# Altium footprint library PcbLib1.PcbLib: 9 footprints
Each footprint in its own frame and in the unit in brackets; x right, y up, seen from the top. Pads: shape width x height; smd on the part's side, far side on the other; paste and mask are expansions set on the pad; w line width, h text height; cw(c..) or ccw(c..) is an arc to the next point about the centre after c.
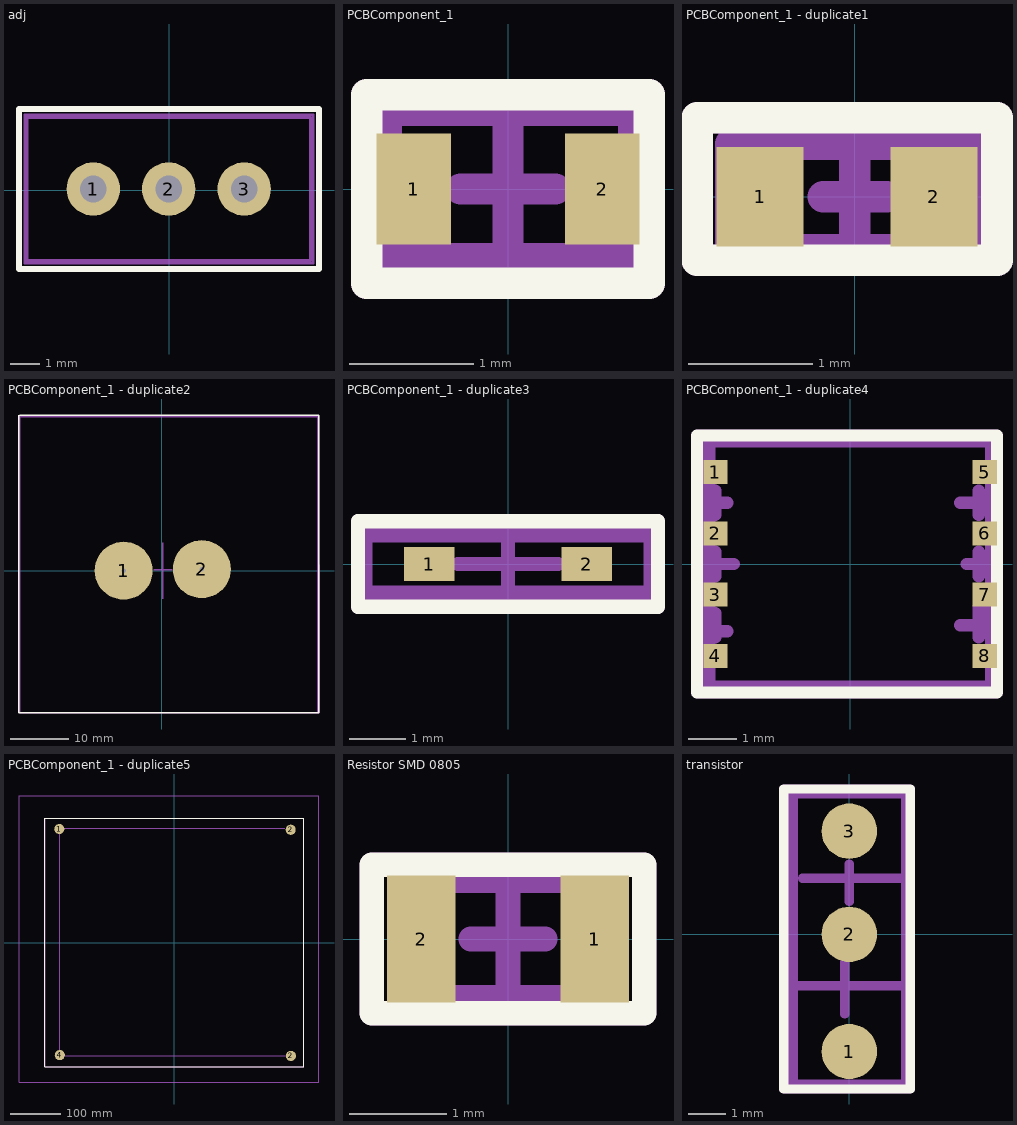
[diagram p0: the footprints below, top view; thin cyan lines are the x and y axes]

## adj [mm]
pads (3):
  round 1.8 hole 0.9: 1(-2.562,0.043) 2(-0.022,0.043) 3(2.518,0.043)
Top Overlay:
  lines w0.2: -5.062,-2.657 5.038,-2.657 5.038,2.743 -5.062,2.743 -5.062,-2.657
Top Single:
  lines w0.1: -4.787,-2.357 4.743,-2.357 4.743,2.443 -4.787,2.443 -4.787,-2.357
Boarder:
  lines w0.1: -4.862,-2.457 -4.862,2.543 4.838,2.543 4.838,-2.457 -4.862,-2.457
3D body "User Library-3296W.STEP": height 11.55, standoff -1.6, extent -4.787,-2.357 4.743,2.443

## PCBComponent_1 [mm]
pads (2):
  rect 0.6x0.9 smd: 1(-0.762,0) 2(0.762,0)
Top Overlay:
  lines w0.254: -1.143,-0.762 1.143,-0.762 1.143,0.762 -1.143,0.762 -1.143,-0.762
3D Model:
  lines w0.254: -0.984,-0.565 -0.984,0.635 1.016,0.635 1.016,-0.565 -0.984,-0.565
Boarder:
  lines w0.254: -0.381,0 0.381,0 ; 0,-0.762 0,0.762 ; -1.143,-0.762 -1.143,0.762 1.143,0.762 1.143,-0.762 -1.143,-0.762
3D body "Резистор 1206 _ 1206 SMD.stp": height 0.61, standoff 0, extent -0.984,-0.508 1.016,0.692

## PCBComponent_1 - duplicate1 [mm]
pads (2):
  rect 0.7x0.8 smd: 1(-0.762,0) 2(0.635,0)
Top Overlay:
  lines w0.254: -1.27,-0.508 -1.27,0.635 1.143,0.635 1.143,-0.508 -1.27,-0.508
3D Model:
  lines w0.254: -1,-0.425 -1,0.425 1,0.425 1,-0.425 -1,-0.425
Boarder:
  lines w0.254: -0.254,0 0.254,0 ; 0,-0.508 0,0.508 ; -1.27,-0.508 -1.27,0.635 1.143,0.635 1.143,-0.508 -1.27,-0.508
3D body "Диод стабилитрон.stp": height -0.05, standoff -0.7, extent -1,-0.425 1,0.425

## PCBComponent_1 - duplicate2 [mil]
pads (2):
  round 393.7 hole 30: 1(-260,0) 2(270,10)
Top Overlay:
  lines w10: -970,1055 -970,-965 1065,-965 1065,1055 -965,1055
3D Model:
  lines w10: -965,-965 -965,1045 1055,1045 1055,-965 -965,-965
Boarder:
  lines w10: -55,5 70,5 ; 5,-190 5,190 ; -965,-965 -965,1050 1065,1050 1065,-965 -965,-965
3D body "Конденсатор _ 220000UF.stp": height -11.81, standoff -4027.56, extent -957.87,-961.95 1050,1041.96

## PCBComponent_1 - duplicate3 [mm]
pads (2):
  rect 0.9x0.6 smd: 1(-1.397,0) 2(1.397,0)
Top Overlay:
  lines w0.254: -2.667,-0.762 -2.667,0.762 2.667,0.762 2.667,-0.762 -2.667,-0.762
3D Model:
  lines w0.254: -2.54,-0.508 2.54,-0.508 2.54,0.508 -2.54,0.508 -2.54,-0.508
Boarder:
  lines w0.254: -0.889,0 0.889,0 ; 0,-0.492 0,0.508 ; -2.667,-0.762 2.667,-0.762 2.667,0.762 -2.667,0.762 -2.667,-0.762
3D body "Header 2.stp": height -0.05, standoff -10.55, extent -2.5,-0.492 2.5,0.508

## PCBComponent_1 - duplicate4 [mm]
pads (8):
  rect 0.5x0.5 smd: 1(-2.794,1.905) 2(-2.794,0.635) 3(-2.794,-0.635) 4(-2.794,-1.905) 5(2.794,1.905) 6(2.794,0.635) 7(2.794,-0.635) 8(2.794,-1.905)
Top Overlay:
  lines w0.254: -3.175,-2.667 -3.175,2.667 3.048,2.667 3.048,-2.667 -3.175,-2.667
3D Model:
  lines w0.254: -2.921,-2.54 -2.921,2.54 2.921,2.54 2.921,-2.54 -2.921,-2.54
Boarder:
  lines w0.254: -3.048,-1.397 -2.54,-1.397 ; -3.048,0 -2.413,0 ; -3.048,1.27 -2.54,1.27 ; -2.794,-1.524 -2.794,-1.016 ; -2.794,-0.254 -2.794,0.254 ; -2.794,1.016 -2.794,1.524 ; 2.286,-1.27 2.921,-1.27 ; 2.286,1.27 2.921,1.27 ; 2.413,0 2.921,0 ; 2.667,-1.524 2.667,-0.889 ; 2.667,-0.254 2.667,0.254 ; 2.667,1.016 2.667,1.524 ; 2.921,0 2.921,0 ; -3.175,-2.667 -3.175,2.667 3.048,2.667 3.048,-2.667 -3.175,-2.667
3D body "Деталь.stp": height -0.02, standoff -2.17, extent -2.879,-2.6 2.921,2.6

## PCBComponent_1 - duplicate5 [mm]
pads (4):
  round 20 smd: 1(-227.203,224.028) 2(229.362,222.504) 2(229.743,-223.647) 4(-226.187,-222.123)
Top Overlay:
  lines w0.254: -255.651,-245.364 255.016,-245.364 255.016,245.11 -255.651,245.11 -255.651,-245.364
3D Model:
  lines w0.254: -255.397,-245.11 -255.397,244.856 254.762,244.856 254.762,-245.11 -255.397,-245.11
Boarder:
  lines w0.254: -306.705,289.176 285.242,289.433 285.242,-275.463 -306.705,-275.463 -306.705,289.179 ; -227.584,-212.471 -226.695,-212.471 ; -227.584,213.741 -225.806,213.741 -225.806,-216.408 ; -219.456,225.171 218.059,225.171 ; -216.408,-223.647 219.456,-223.647 ; 227.965,216.662 229.362,216.662
3D body "Сборка.stp": height 60, standoff 0, extent -255.27,-245.017 254.73,244.983

## Resistor SMD 0805 [mm]
pads (2):
  rect 0.7x1.3 smd: 1(0.889,0) 2(-0.889,0)
Top Overlay:
  lines w0.254: -1.397,-0.762 -1.397,0.762 1.397,0.762 1.397,-0.762 -1.397,-0.762
3D Model:
  lines w0.254: -1,-0.6 -1,0.6 1,0.6 1,-0.6 -1,-0.6
Boarder:
  lines w0.254: -0.381,0 0.381,0 ; 0,-0.635 0,0.635 ; -1.397,-0.762 -1.397,0.762 1.397,0.762 1.397,-0.762 -1.397,-0.762
3D body "Резистор 1206 _ 1206 SMD.stp": height 0.61, standoff 0, extent -1,-0.6 1,0.6

## transistor [mm]
pads (3):
  round 1.5 smd: 1(0,-3.175) 2(0,0) 3(0,2.794)
Top Overlay:
  lines w0.254: -1.778,-4.191 1.651,-4.191 1.651,3.937 -1.778,3.937 -1.778,-4.191
3D Model:
  lines w0.254: -1.524,-4.064 -1.524,3.81 1.524,3.81 1.524,-4.064 -1.524,-4.064
Boarder:
  lines w0.254: -1.397,-1.397 1.397,-1.397 ; -1.27,1.524 1.397,1.524 0,1.524 -0.127,1.524 ; -0.127,-2.159 -0.127,-0.762 ; 0,0.889 0,1.905 ; -1.778,-4.191 -1.778,3.937 1.651,3.937 1.651,-4.191 -1.778,-4.191
3D body "BD139, Транзистор.stp": height -0.04, standoff -27.09, extent -1.376,-4.154 1.524,3.646